# EAGLE library part LT3748 (library ELL-i-PowerIC)
100V Isolated Flyback Controller A switching regulator controller designed for the isolated flyback topology. Drives an external N-channel power MOSFET from an internally regulated 7V supply. No third winding or opto-isolator are required. Product page <http://www.linear.com/product/LT3748> Datasheet <http://www.linear.com/docs/29653> Wiki page <https://github.com/Ell-i/ELL-i-Eagle-Libraries/wiki/PowerIC-LT3748>
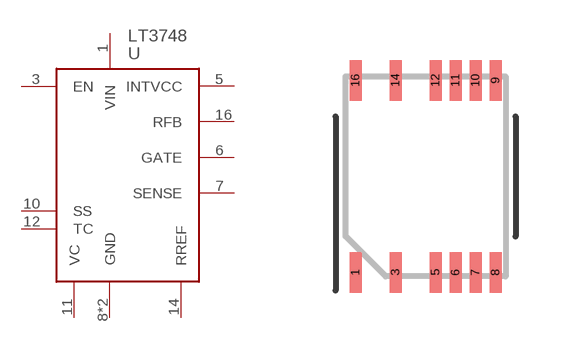
[diagram p1: symbol with the pads of MSOP16(12); footprint MSOP16(12)]

Designator prefix U

## LT3748  [MSOP16(12)]
1  VIN  pwr
3  EN  in
5  INTVCC  pwr
6  GATE  out
7  SENSE  in
8  GND  pwr
9  GND  pwr
10  SS
11  VC  pas
12  TC  out
14  RREF  in
16  RFB  in

## Footprint MSOP16(12) (pad centres in mm)
16 leads Miniature Small Outline Package (MSOP) plastic with 4 pins removed Drawn from the LT3748 datasheet. Pads are as per manufacturer recommendations. Mechanical outline is on Measures layer. Silkscreen outline is on tPlace layer, 0.15 mm width. Silkscreen has 0.15 mm clearance from pads and body. Name is on tNames layer, 1.5 mm height, 10 % ratio. Assembly drawing is on tDocu layer.
smd 0.3 x 1.02: 1 -1.75,-2.4; 3 -0.75,-2.4; 5 0.25,-2.4; 6 0.75,-2.4; 7 1.25,-2.4; 8 1.75,-2.4; 9 1.75,2.4; 10 1.25,2.4; 11 0.75,2.4; 12 0.25,2.4; 14 -0.75,2.4; 16 -1.75,2.4